# EAGLE library part LM358 (library digital-toy)
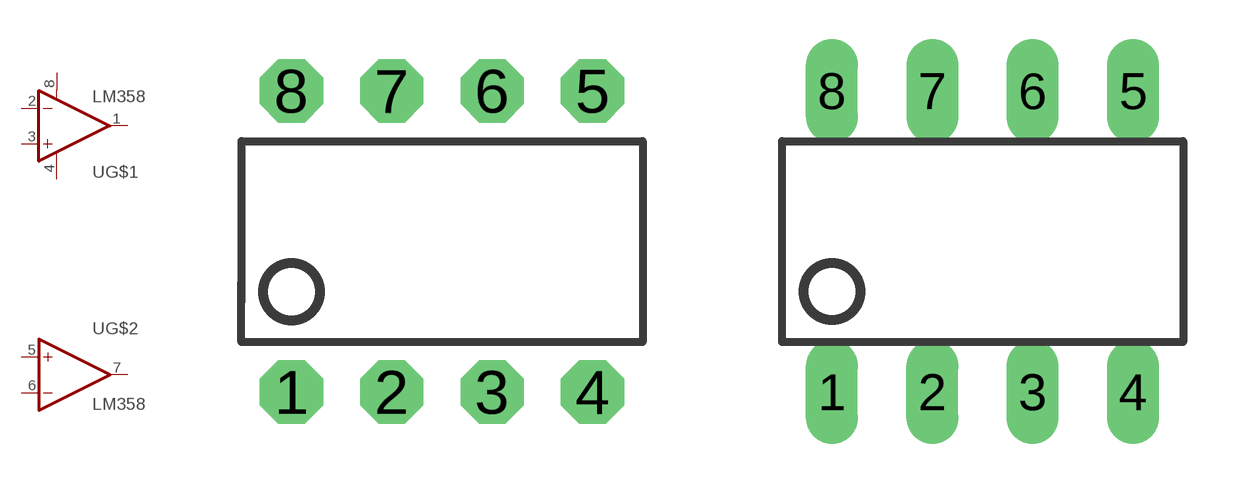
[diagram p0: symbol with the pads of DIP08; footprints DIP08, DIP08-L]

Designator prefix -; gates G$1=OP-AMP+- G$2=OP-AMP

## LM358  [DIP08]
1  G$1:OUT  out
2  G$1:-IN  in
3  G$1:+IN  in
4  G$1:V-  pwr
5  G$2:+IN  in
6  G$2:-IN  in
7  G$2:OUT  out
8  G$1:V+  pwr

## LM358L  [DIP08-L]
Pads as for DIP08

## Footprint DIP08 (pad centres in mm)
Dual In Line
drill 0.813 pad 1.6 octagon: 1 -3.81,-3.81; 2 -1.27,-3.81; 3 1.27,-3.81; 4 3.81,-3.81; 5 3.81,3.81; 6 1.27,3.81; 7 -1.27,3.81; 8 -3.81,3.81

## Footprint DIP08-L (pad centres in mm)
drill 0.813 long: 1 0,-2.54; 2 2.54,-2.54; 3 5.08,-2.54; 4 7.62,-2.54; 5 7.62,5.08; 6 5.08,5.08; 7 2.54,5.08; 8 0,5.08